# Altium footprint library CardHolder.PcbLib: 3 footprints
Each footprint in its own frame and in the unit in brackets; x right, y up, seen from the top. Pads: shape width x height; smd on the part's side, far side on the other; paste and mask are expansions set on the pad; w line width, h text height; cw(c..) or ccw(c..) is an arc to the next point about the centre after c.
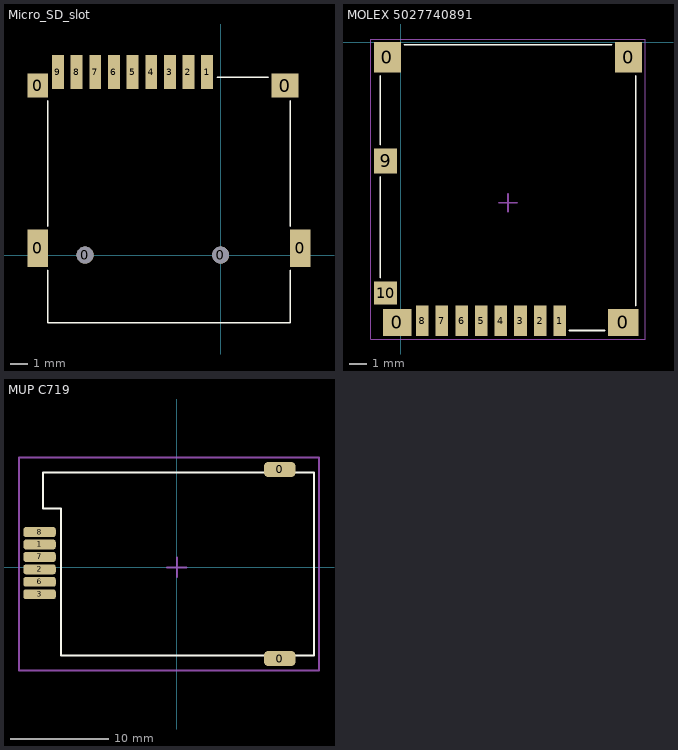
[diagram p0: the footprints below, top view; thin cyan lines are the x and y axes]

## Micro_SD_slot [mm]
pads (15):
  rect 1.2x2.2 smd: 0(-10.8,0.4) 0(4.7,0.4)
  rect 1.2x1.4 smd: 0(-10.8,10)
  round 1 hole 1: 0(-8,0) 0(0,0)
  rect 1.6x1.4 smd: 0(3.8,10)
  rect 0.7x2 smd: 1(-0.8,10.8) 2(-1.9,10.8) 3(-3,10.8) 4(-4.1,10.8) 5(-5.2,10.8) 6(-6.3,10.8) 7(-7.4,10.8) 8(-8.5,10.8) 9(-9.6,10.8)
Top Overlay:
  lines w0.1: -10.2,-0.9 -10.2,-4 4.1,-4 4.1,-0.9 ; -10.2,1.7 -10.2,9.1 ; -0.2,10.5 2.8,10.5 ; 4.1,1.7 4.1,9.1

## MOLEX 5027740891 [mm] "1.10mm Pitch microSD Memory Card Connector, Reverse Mount Surface Mount, Push-Push Type"
height 1.8
pads (14):
  rect 1.5x1.7 smd mask+0.05: 0(-0.75,-0.85) 0(12.75,-0.85)
  rect 1.6x1.5 smd mask+0.05: 0(-0.21,-15.7)
  rect 1.7x1.5 smd mask+0.05: 0(12.45,-15.7)
  rect 0.7x1.7 smd mask+0.05: 1(8.9,-15.61) 2(7.8,-15.61) 3(6.7,-15.61) 4(5.6,-15.61) 5(4.5,-15.61) 6(3.4,-15.61) 7(2.3,-15.61) 8(1.2,-15.61)
  rect 1.29x1.4 smd mask+0.05: 9(-0.855,-6.65)
  rect 1.29x1.3 smd mask+0.05: 10(-0.855,-14.05)
Top Overlay:
  lines w0.1: -1.15,-13.2 -1.15,-7.55 ; -1.15,-5.75 -1.15,-1.9 ; 0.2,-0.15 11.8,-0.15 ; 9.45,-16.15 11.4,-16.15 ; 13.15,-14.75 13.15,-1.9
Mechanical 15:
  lines w0.05: -1.675,-16.625 13.675,-16.625 13.675,0.175 -1.675,0.175 -1.675,-16.625
  lines w0.1: 5.5,-9 6.5,-9 ; 6,-9.5 6,-8.5
3D body: height 1.78, standoff -0.02, extent -1.15,-16.15 13.15,-0.15

## MUP C719 [mm]
pads (8):
  rrect50% 3.2x1.5 smd: 0(10.5,-9.29) 0(10.5,9.99)
  rrect50% 3.3x1 smd: 1(-14,2.34) 2(-14,-0.2) 3(-14,-2.74) 6(-14,-1.47) 7(-14,1.07) 8(-14,3.61)
Top Overlay:
  lines w0.2: -13.65,6 -13.65,9.7 14,9.7 14,-9 -11.8,-9 -11.8,6 -13.65,6
Mechanical 15:
  lines w0.2: -1,0 1,0 ; 0,-1 0,1 ; -16.1,-10.5 -16.1,11.2 14.5,11.2 14.5,-10.5 -16.1,-10.5